# EAGLE library part LM5008A (library myLib)
LM5008A 100V, 350 mA Constant On-Time Buck Switching Regulator WITH 8-PIN MSOP PACKAGING http://www.ti.com/lit/ds/symlink/lm5008a.pdf
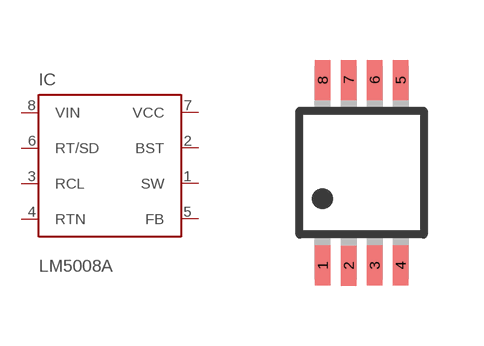
[diagram p0: symbol with the pads of LM5008A-MSOP-8; footprint LM5008A-MSOP-8]

Designator prefix IC

## LM5008A  [LM5008A-MSOP-8]
1  SW  out
2  BST  out
3  RCL  in
4  RTN  in
5  FB  in
6  RT/SD  in
7  VCC  pwr
8  VIN  pwr

## Footprint LM5008A-MSOP-8 (pad centres in mm)
LM5008A-MSOP-8
smd 0.38 x 1: 1 -0.975,-2.32; 2 -0.325,-2.33; 3 0.325,-2.32; 4 0.975,-2.32; 5 0.975,2.32; 6 0.325,2.32; 7 -0.325,2.32; 8 -0.975,2.32